# EAGLE library part CONNECTOR-8 (library HyTechDevices - Copy)
8 Pin Connector
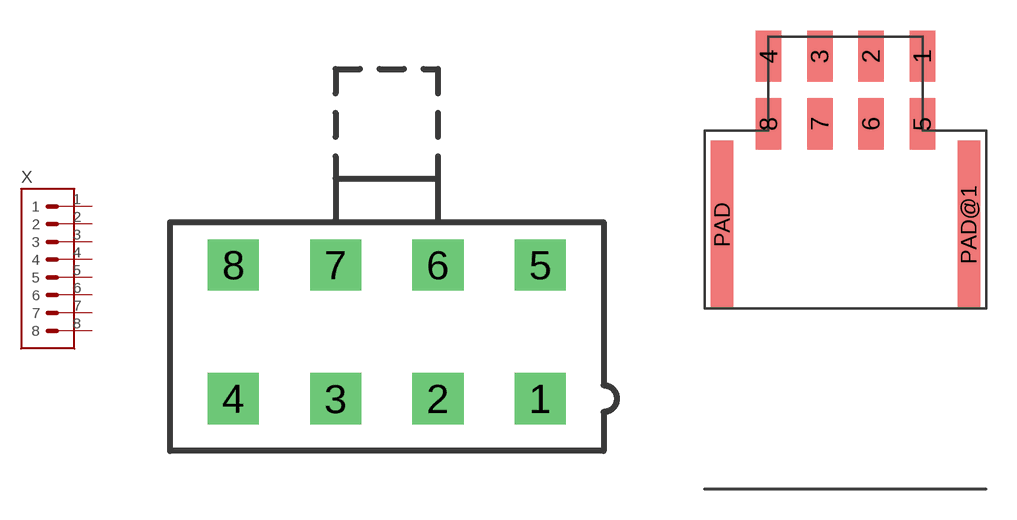
[diagram p2: symbol with the pads of MOLEX_MINIFIT_PTH_08; footprints MOLEX_MINIFIT_PTH_08, MOLEX_NANOFIT_SMD_RIGHTANGLE_08]

Designator prefix X

## CONNECTOR-8 (OC_FARNELL: unknown; OC_NEWARK: unknown)  [MOLEX_MINIFIT_PTH_08]
1  1  pas
2  2  pas
3  3  pas
4  4  pas
5  5  pas
6  6  pas
7  7  pas
8  8  pas

## CONNECTOR-8NANO-FIT_RIGHT_ANGLE-8-SURFACE  [MOLEX_NANOFIT_SMD_RIGHTANGLE_08]
Pads as for MOLEX_MINIFIT_PTH_08

## CONNECTOR-8NANO-FIT_VERTICAL-8  [MOLEX_NANOFIT_PTH_08]
Pads as for MOLEX_MINIFIT_PTH_08

## Footprint MOLEX_MINIFIT_PTH_08 (pad centres in mm)
8 Pin Mini-Fit Vertical Header, Through Hole, Dual Row Part <https://www.molex.com/molex/products/part-detail/pcb_headers/0039288080> Footprint <https://www.molex.com/pdm_docs/sd/0039288080_sd.pdf>
drill 1.4 square: 1 6.3,-2.75; 2 2.1,-2.75; 3 -2.1,-2.75; 4 -6.3,-2.75; 5 6.3,2.75; 6 2.1,2.75; 7 -2.1,2.75; 8 -6.3,2.75

## Footprint MOLEX_NANOFIT_SMD_RIGHTANGLE_08 (pad centres in mm)
8 Pin Nano-Fit Vertical Header, PCB Mount, Dual Row Part <https://www.molex.com/molex/products/part-detail/pcb_headers/1054051208> Footprint <https://www.molex.com/pdm_docs/sd/1054051208_sd.pdf>
smd 1.24 x 2.5: 1 3.75,1.65; 2 1.25,1.65; 3 -1.25,1.65; 4 -3.75,1.65; 5 3.75,-1.65; 6 1.25,-1.65; 7 -1.25,-1.65; 8 -3.75,-1.65
smd 1.1 x 8.2: PAD -6.02,-6.58; PAD@1 6.02,-6.58

## Footprint MOLEX_NANOFIT_PTH_08 (pad centres in mm)
8 Pin Nano-Fit™ Vertical Header, Through Hole, Dual Row Part <https://www.molex.com/molex/products/part-detail/pcb_headers/1053101208> Footprint <https://www.molex.com/pdm_docs/sd/1053101208_sd.pdf>
drill 1.2: 1 3.75,0; 2 1.25,0; 3 -1.25,0; 4 -3.75,0; 5 3.75,-2.5; 6 1.25,-2.5; 7 -1.25,-2.5; 8 -3.75,-2.5
hole 1.3 at 0,1.34